# Altium integrated library Linear Technology Power Management Battery Management.IntLib: 626 symbols (part 21 of 56)
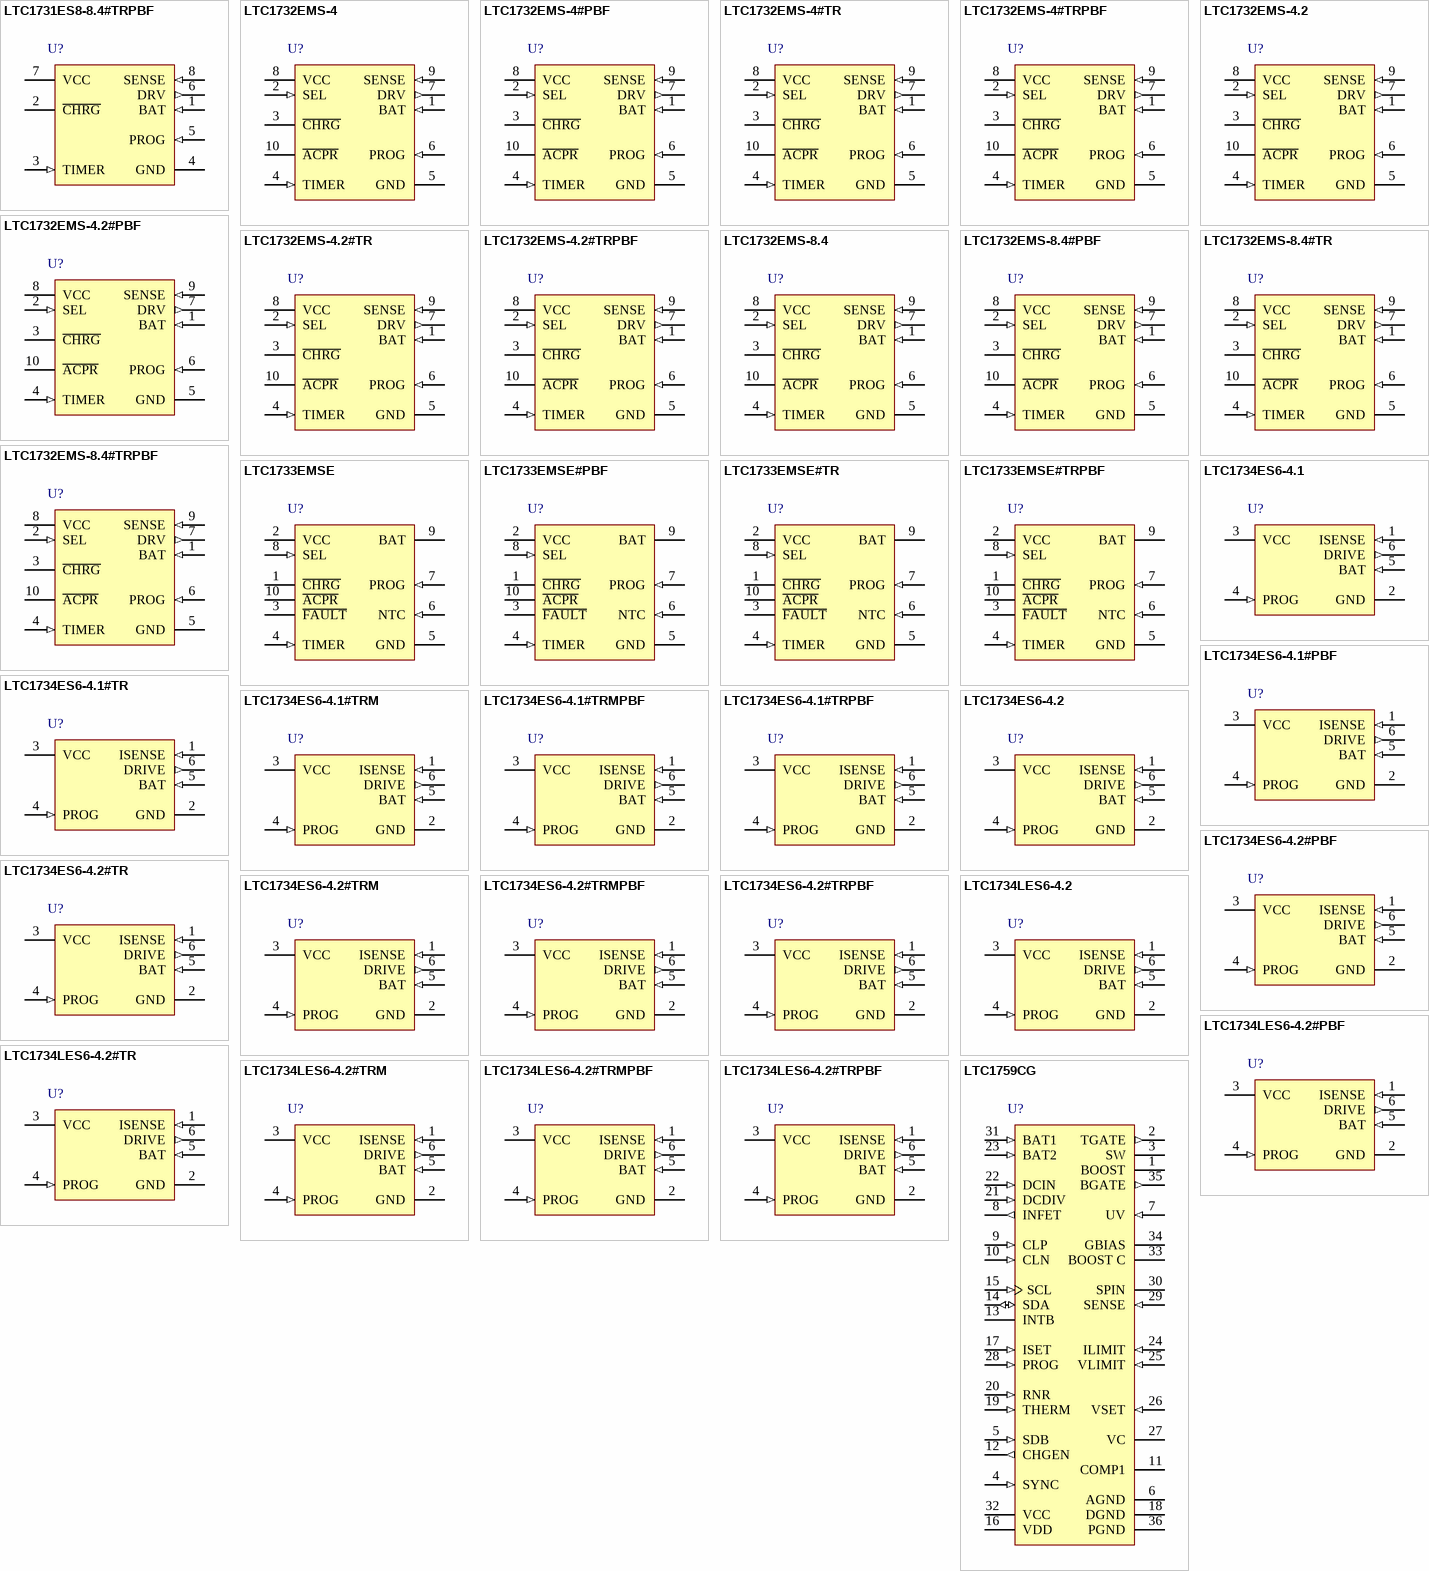
[diagram p42: symbols LTC1731ES8-8.4#TRPBF to LTC1759CG]

## LTC1732EMS-8.4#TR
designator U?
Complete Stand-Alone Linear Charger, Needs No Firmware, 8.8 to 12 V Vin, 10-pin SOP (MS-10), -40 to 85 degC, Tape and Reel; Manufacturer: Linear Technology; PartNumber: LTC1732EMS-8.4#TR; Battery Chemistry: Li-Ion, Li-Polymer; Charge Termination: On-board timer; Float Voltage: 8.4 V; Max Charge Current(A): 2; Vin Max(V): 12; Vin Min(V): 8.8; PackageVersion: Rev. E, 06/2010; PackageReference: MS-10; PackageDescription: 10-Pin Plastic MSOP, Body 3 x 3 mm, Pitch 0.5 mm; Supplier 1: Digi-Key; Supplier Part Number 1: LTC1732EMS-8.4TR-ND; Number of Cells: 2; Packing: Tape and Reel; RoHS: FALSE; Type of Charger: Linear; Mounting Technology: Surface Mount; ComponentLink1Description: Manufacturer URL; ComponentLink1URL: http://www.linear.com/; ComponentLink2Description: Datasheet; ComponentLink2URL: http://cds.linear.com/docs/en/datasheet/17328f.pdf; ComponentLink3Description: Package Specification; ComponentLink3URL: http://cds.linear.com/docs/en/packaging/05081661_F_MS.pdf
footprint LT-MS-10_N (SOP, 10-Leads, Body 3.1x3.1mm, Pitch 0.5mm, IPC Medium Density)
footprint LT-MS-10_L (SOP, 10-Leads, Body 3.1x3.1mm, Pitch 0.5mm, IPC High Density)
footprint LT-MS-10_M (SOP, 10-Leads, Body 3.1x3.1mm, Pitch 0.5mm, IPC Low Density)
pins: 1 BAT (in), 2 SEL (in), 3 ~{CHRG} (hiz), 4 TIMER (in), 5 GND (power) "Ground.", 6 PROG (in) "Charge Current Program and Shutdown Input Pin. The charge current is programmed by connecting a resistor, RPROG to ground. The charge current is IBAT = (VPROG ? 800ohm)/(RPROG ? RSENSE). The IC can be forced into shutdown by (See Datasheet)", 7 DRV (out), 8 VCC (power), 9 SENSE (in), 10 ~{ACPR} (hiz)

## LTC1732EMS-8.4#TRPBF
designator U?
Complete Stand-Alone Linear Charger, Needs No Firmware, 8.8 to 12 V Vin, 10-pin SOP (MS-10), -40 to 85 degC, Pb-Free, Tape and Reel; Manufacturer: Linear Technology; PartNumber: LTC1732EMS-8.4#TRPBF; Battery Chemistry: Li-Ion, Li-Polymer; Charge Termination: On-board timer; Float Voltage: 8.4 V; Max Charge Current(A): 2; Vin Max(V): 12; Vin Min(V): 8.8; PackageVersion: Rev. E, 06/2010; PackageReference: MS-10; PackageDescription: 10-Pin Plastic MSOP, Body 3 x 3 mm, Pitch 0.5 mm; Supplier 1: Digi-Key; Supplier Part Number 1: LTC1732EMS-8.4#TRPBF-ND; Number of Cells: 2; Packing: Tape and Reel; RoHS: TRUE; Type of Charger: Linear; Mounting Technology: Surface Mount; ComponentLink1Description: Manufacturer URL; ComponentLink1URL: http://www.linear.com/; ComponentLink2Description: Datasheet; ComponentLink2URL: http://cds.linear.com/docs/en/datasheet/17328f.pdf; ComponentLink3Description: Package Specification; ComponentLink3URL: http://cds.linear.com/docs/en/packaging/05081661_F_MS.pdf
footprint LT-MS-10_N (SOP, 10-Leads, Body 3.1x3.1mm, Pitch 0.5mm, IPC Medium Density)
footprint LT-MS-10_L (SOP, 10-Leads, Body 3.1x3.1mm, Pitch 0.5mm, IPC High Density)
footprint LT-MS-10_M (SOP, 10-Leads, Body 3.1x3.1mm, Pitch 0.5mm, IPC Low Density)
pins: 1 BAT (in), 2 SEL (in), 3 ~{CHRG} (hiz), 4 TIMER (in), 5 GND (power) "Ground.", 6 PROG (in) "Charge Current Program and Shutdown Input Pin. The charge current is programmed by connecting a resistor, RPROG to ground. The charge current is IBAT = (VPROG ? 800ohm)/(RPROG ? RSENSE). The IC can be forced into shutdown by (See Datasheet)", 7 DRV (out), 8 VCC (power), 9 SENSE (in), 10 ~{ACPR} (hiz)

## LTC1733EMSE
designator U?
Thermal Regulation for No Overheating, Integrated MOSFET, Rsense, Diode, Stand-Alone, Thermistor Interface, 4.5 to 6.5 V Vin, 10-pin SOP (MSE-10-EDP), -40 to 85 degC; Manufacturer: Linear Technology; PartNumber: LTC1733EMSE; Battery Chemistry: Li-Ion, Li-Polymer; Charge Termination: On-board timer; Float Voltage: 4.2 V; Max Charge Current(A): 1.5; Number of Cells: 1; Type of Charger: Linear; Vin Max(V): 6.5; Vin Min(V): 4.5; PackageVersion: Rev. C, 08/2009; PackageReference: MSE-10; PackageDescription: 10-Pin Plastic MSOP, Exposed Die Pad, Body 3 x 3 mm, Pitch 0.5 mm; Supplier 1: Digi-Key; Supplier Part Number 1: LTC1733EMSE-ND; RoHS: FALSE; Mounting Technology: Surface Mount; ComponentLink1Description: Manufacturer URL; ComponentLink1URL: http://www.linear.com/; ComponentLink2Description: Datasheet; ComponentLink2URL: http://cds.linear.com/docs/en/datasheet/1733fs.pdf; ComponentLink3Description: Package Specification; ComponentLink3URL: http://cds.linear.com/docs/en/datasheet/3481fc.pdf
footprint LT-MSE-10-EDP-2060x1830TP_N (SOP, 10-Leads, Body 3.1x3.1mm, Pitch 0.5mm, Thermal Pad 2.17x1.94mm, IPC Medium Density)
footprint LT-MSE-10-EDP-2060x1830TP_L (SOP, 10-Leads, Body 3.1x3.1mm, Pitch 0.5mm, Thermal Pad 2.17x1.94mm, IPC High Density)
footprint LT-MSE-10-EDP-2060x1830TP_M (SOP, 10-Leads, Body 3.1x3.1mm, Pitch 0.5mm, Thermal Pad 2.17x1.94mm, IPC Low Density)
pins: 1 ~{CHRG} (hiz) "Open-Drain Charge Status Output. When the battery is being charged, the C\H\R\G\ pin is pulled low by an internal N-channel MOSFET. When the charge current drops to 10% of the full-scale current, the N-channel MOSFET latches (See Datasheet)", 2 VCC (power) "Positive Input Supply Voltage. When VCC is within 30mV of VBAT or less than the undervoltage lockout threshold, the LTC1733 enters sleep mode, dropping IBAT to less than 5uA. VCC can range from 4.5V to 6.5V. Bypass this pin (See Datasheet)", 3 ~{FAULT} (oc) "Open-Drain F\A\U\L\T\ Status Output. The F\A\U\L\T\ opendrain logic signal indicates that the charger has timed out under trickle charge conditions (1/4 of total time period) or the NTC comparator is indicating an (See Datasheet)", 4 TIMER (in) "Timer Capacitor. The timer period is set by placing a capacitor, CTIMER, to ground. The timer period is: Time (Hours) = (CTIMER • 3 hr)/(0.1uF) Short the TIMER pin to ground to disable the internal timer function.", 5 GND (power) "Ground.", 6 NTC (in) "Input to the NTC (Negative Temperature Coefficient) Thermistor Temperature Monitoring Circuit. With an external 10k ohm NTC thermistor to ground and a 1% resistor to VCC, this pin can sense the temperature of the battery (See Datasheet)", 7 PROG (in) "Charge Current Program, Shutdown Input and Charge Current Monitor Pin. The charge current is programmed by connecting a resistor, RPROG to ground. When in constant-current mode, the LTC1733 servos the PROG pin voltage to 1.(See Datasheet)", 8 SEL (in) "4.1V/4.2V Battery Selection Input. Grounding this pin sets the battery float voltage to 4.1V, while connecting to VCC sets the voltage to 4.2V.", 9 BAT (power) "Charge Current Output. A bypass capacitor of at least 1uF with a 1W series resistor is required to minimize ripple voltage when the battery is not present. A precision internal resistor divider sets the final float potential (See Datasheet)", 10 ~{ACPR} (hiz) "Open-Drain Power Supply Status Output. When VCC is greater than the undervoltage lockout threshold and at least 30mV above VBAT, the A\C\P\R\ pin will pull to ground. Otherwise, the pin is forced to a high impedance state."

## LTC1733EMSE#PBF
designator U?
Thermal Regulation for No Overheating, Integrated MOSFET, Rsense, Diode, Stand-Alone, Thermistor Interface, 4.5 to 6.5 V Vin, 10-pin SOP (MSE-10-EDP), -40 to 85 degC, Pb-Free; Manufacturer: Linear Technology; PartNumber: LTC1733EMSE#PBF; Battery Chemistry: Li-Ion, Li-Polymer; Charge Termination: On-board timer; Float Voltage: 4.2 V; Max Charge Current(A): 1.5; Number of Cells: 1; Type of Charger: Linear; Vin Max(V): 6.5; Vin Min(V): 4.5; PackageVersion: Rev. C, 08/2009; PackageReference: MSE-10; PackageDescription: 10-Pin Plastic MSOP, Exposed Die Pad, Body 3 x 3 mm, Pitch 0.5 mm; Supplier 1: Digi-Key; Supplier Part Number 1: LTC1733EMSE#PBF-ND; Supplier 2: Farnell; Supplier Part Number 2: 1648017; Supplier 3: Newark; Supplier Part Number 3: 58M0697; RoHS: TRUE; Mounting Technology: Surface Mount; ComponentLink1Description: Manufacturer URL; ComponentLink1URL: http://www.linear.com/; ComponentLink2Description: Datasheet; ComponentLink2URL: http://cds.linear.com/docs/en/datasheet/1733fs.pdf; ComponentLink3Description: Package Specification; ComponentLink3URL: http://cds.linear.com/docs/en/datasheet/3481fc.pdf
footprint LT-MSE-10-EDP-2060x1830TP_N (SOP, 10-Leads, Body 3.1x3.1mm, Pitch 0.5mm, Thermal Pad 2.17x1.94mm, IPC Medium Density)
footprint LT-MSE-10-EDP-2060x1830TP_L (SOP, 10-Leads, Body 3.1x3.1mm, Pitch 0.5mm, Thermal Pad 2.17x1.94mm, IPC High Density)
footprint LT-MSE-10-EDP-2060x1830TP_M (SOP, 10-Leads, Body 3.1x3.1mm, Pitch 0.5mm, Thermal Pad 2.17x1.94mm, IPC Low Density)
pins: 1 ~{CHRG} (hiz) "Open-Drain Charge Status Output. When the battery is being charged, the C\H\R\G\ pin is pulled low by an internal N-channel MOSFET. When the charge current drops to 10% of the full-scale current, the N-channel MOSFET latches (See Datasheet)", 2 VCC (power) "Positive Input Supply Voltage. When VCC is within 30mV of VBAT or less than the undervoltage lockout threshold, the LTC1733 enters sleep mode, dropping IBAT to less than 5uA. VCC can range from 4.5V to 6.5V. Bypass this pin (See Datasheet)", 3 ~{FAULT} (oc) "Open-Drain F\A\U\L\T\ Status Output. The F\A\U\L\T\ opendrain logic signal indicates that the charger has timed out under trickle charge conditions (1/4 of total time period) or the NTC comparator is indicating an (See Datasheet)", 4 TIMER (in) "Timer Capacitor. The timer period is set by placing a capacitor, CTIMER, to ground. The timer period is: Time (Hours) = (CTIMER • 3 hr)/(0.1uF) Short the TIMER pin to ground to disable the internal timer function.", 5 GND (power) "Ground.", 6 NTC (in) "Input to the NTC (Negative Temperature Coefficient) Thermistor Temperature Monitoring Circuit. With an external 10k ohm NTC thermistor to ground and a 1% resistor to VCC, this pin can sense the temperature of the battery (See Datasheet)", 7 PROG (in) "Charge Current Program, Shutdown Input and Charge Current Monitor Pin. The charge current is programmed by connecting a resistor, RPROG to ground. When in constant-current mode, the LTC1733 servos the PROG pin voltage to 1.(See Datasheet)", 8 SEL (in) "4.1V/4.2V Battery Selection Input. Grounding this pin sets the battery float voltage to 4.1V, while connecting to VCC sets the voltage to 4.2V.", 9 BAT (power) "Charge Current Output. A bypass capacitor of at least 1uF with a 1W series resistor is required to minimize ripple voltage when the battery is not present. A precision internal resistor divider sets the final float potential (See Datasheet)", 10 ~{ACPR} (hiz) "Open-Drain Power Supply Status Output. When VCC is greater than the undervoltage lockout threshold and at least 30mV above VBAT, the A\C\P\R\ pin will pull to ground. Otherwise, the pin is forced to a high impedance state."

## LTC1733EMSE#TR
designator U?
Thermal Regulation for No Overheating, Integrated MOSFET, Rsense, Diode, Stand-Alone, Thermistor Interface, 4.5 to 6.5 V Vin, 10-pin SOP (MSE-10-EDP), -40 to 85 degC, Tape and Reel; Manufacturer: Linear Technology; PartNumber: LTC1733EMSE#TR; Battery Chemistry: Li-Ion, Li-Polymer; Charge Termination: On-board timer; Float Voltage: 4.2 V; Max Charge Current(A): 1.5; Number of Cells: 1; Type of Charger: Linear; Vin Max(V): 6.5; Vin Min(V): 4.5; PackageVersion: Rev. C, 08/2009; PackageReference: MSE-10; PackageDescription: 10-Pin Plastic MSOP, Exposed Die Pad, Body 3 x 3 mm, Pitch 0.5 mm; Supplier 1: Digi-Key; Supplier Part Number 1: LTC1733EMSE#TR-ND; Packing: Tape and Reel; RoHS: FALSE; Mounting Technology: Surface Mount; ComponentLink1Description: Manufacturer URL; ComponentLink1URL: http://www.linear.com/; ComponentLink2Description: Datasheet; ComponentLink2URL: http://cds.linear.com/docs/en/datasheet/1733fs.pdf; ComponentLink3Description: Package Specification; ComponentLink3URL: http://cds.linear.com/docs/en/datasheet/3481fc.pdf
footprint LT-MSE-10-EDP-2060x1830TP_N (SOP, 10-Leads, Body 3.1x3.1mm, Pitch 0.5mm, Thermal Pad 2.17x1.94mm, IPC Medium Density)
footprint LT-MSE-10-EDP-2060x1830TP_L (SOP, 10-Leads, Body 3.1x3.1mm, Pitch 0.5mm, Thermal Pad 2.17x1.94mm, IPC High Density)
footprint LT-MSE-10-EDP-2060x1830TP_M (SOP, 10-Leads, Body 3.1x3.1mm, Pitch 0.5mm, Thermal Pad 2.17x1.94mm, IPC Low Density)
pins: 1 ~{CHRG} (hiz) "Open-Drain Charge Status Output. When the battery is being charged, the C\H\R\G\ pin is pulled low by an internal N-channel MOSFET. When the charge current drops to 10% of the full-scale current, the N-channel MOSFET latches (See Datasheet)", 2 VCC (power) "Positive Input Supply Voltage. When VCC is within 30mV of VBAT or less than the undervoltage lockout threshold, the LTC1733 enters sleep mode, dropping IBAT to less than 5uA. VCC can range from 4.5V to 6.5V. Bypass this pin (See Datasheet)", 3 ~{FAULT} (oc) "Open-Drain F\A\U\L\T\ Status Output. The F\A\U\L\T\ opendrain logic signal indicates that the charger has timed out under trickle charge conditions (1/4 of total time period) or the NTC comparator is indicating an (See Datasheet)", 4 TIMER (in) "Timer Capacitor. The timer period is set by placing a capacitor, CTIMER, to ground. The timer period is: Time (Hours) = (CTIMER • 3 hr)/(0.1uF) Short the TIMER pin to ground to disable the internal timer function.", 5 GND (power) "Ground.", 6 NTC (in) "Input to the NTC (Negative Temperature Coefficient) Thermistor Temperature Monitoring Circuit. With an external 10k ohm NTC thermistor to ground and a 1% resistor to VCC, this pin can sense the temperature of the battery (See Datasheet)", 7 PROG (in) "Charge Current Program, Shutdown Input and Charge Current Monitor Pin. The charge current is programmed by connecting a resistor, RPROG to ground. When in constant-current mode, the LTC1733 servos the PROG pin voltage to 1.(See Datasheet)", 8 SEL (in) "4.1V/4.2V Battery Selection Input. Grounding this pin sets the battery float voltage to 4.1V, while connecting to VCC sets the voltage to 4.2V.", 9 BAT (power) "Charge Current Output. A bypass capacitor of at least 1uF with a 1W series resistor is required to minimize ripple voltage when the battery is not present. A precision internal resistor divider sets the final float potential (See Datasheet)", 10 ~{ACPR} (hiz) "Open-Drain Power Supply Status Output. When VCC is greater than the undervoltage lockout threshold and at least 30mV above VBAT, the A\C\P\R\ pin will pull to ground. Otherwise, the pin is forced to a high impedance state."

## LTC1733EMSE#TRPBF
designator U?
Thermal Regulation for No Overheating, Integrated MOSFET, Rsense, Diode, Stand-Alone, Thermistor Interface, 4.5 to 6.5 V Vin, 10-pin SOP (MSE-10-EDP), -40 to 85 degC, Pb-Free, Tape and Reel; Manufacturer: Linear Technology; PartNumber: LTC1733EMSE#TRPBF; Battery Chemistry: Li-Ion, Li-Polymer; Charge Termination: On-board timer; Float Voltage: 4.2 V; Max Charge Current(A): 1.5; Number of Cells: 1; Type of Charger: Linear; Vin Max(V): 6.5; Vin Min(V): 4.5; PackageVersion: Rev. C, 08/2009; PackageReference: MSE-10; PackageDescription: 10-Pin Plastic MSOP, Exposed Die Pad, Body 3 x 3 mm, Pitch 0.5 mm; Supplier 1: Digi-Key; Supplier Part Number 1: LTC1733EMSE#TRPBF-ND; Packing: Tape and Reel; RoHS: TRUE; Mounting Technology: Surface Mount; ComponentLink1Description: Manufacturer URL; ComponentLink1URL: http://www.linear.com/; ComponentLink2Description: Datasheet; ComponentLink2URL: http://cds.linear.com/docs/en/datasheet/1733fs.pdf; ComponentLink3Description: Package Specification; ComponentLink3URL: http://cds.linear.com/docs/en/datasheet/3481fc.pdf
footprint LT-MSE-10-EDP-2060x1830TP_N (SOP, 10-Leads, Body 3.1x3.1mm, Pitch 0.5mm, Thermal Pad 2.17x1.94mm, IPC Medium Density)
footprint LT-MSE-10-EDP-2060x1830TP_L (SOP, 10-Leads, Body 3.1x3.1mm, Pitch 0.5mm, Thermal Pad 2.17x1.94mm, IPC High Density)
footprint LT-MSE-10-EDP-2060x1830TP_M (SOP, 10-Leads, Body 3.1x3.1mm, Pitch 0.5mm, Thermal Pad 2.17x1.94mm, IPC Low Density)
pins: 1 ~{CHRG} (hiz) "Open-Drain Charge Status Output. When the battery is being charged, the C\H\R\G\ pin is pulled low by an internal N-channel MOSFET. When the charge current drops to 10% of the full-scale current, the N-channel MOSFET latches (See Datasheet)", 2 VCC (power) "Positive Input Supply Voltage. When VCC is within 30mV of VBAT or less than the undervoltage lockout threshold, the LTC1733 enters sleep mode, dropping IBAT to less than 5uA. VCC can range from 4.5V to 6.5V. Bypass this pin (See Datasheet)", 3 ~{FAULT} (oc) "Open-Drain F\A\U\L\T\ Status Output. The F\A\U\L\T\ opendrain logic signal indicates that the charger has timed out under trickle charge conditions (1/4 of total time period) or the NTC comparator is indicating an (See Datasheet)", 4 TIMER (in) "Timer Capacitor. The timer period is set by placing a capacitor, CTIMER, to ground. The timer period is: Time (Hours) = (CTIMER • 3 hr)/(0.1uF) Short the TIMER pin to ground to disable the internal timer function.", 5 GND (power) "Ground.", 6 NTC (in) "Input to the NTC (Negative Temperature Coefficient) Thermistor Temperature Monitoring Circuit. With an external 10k ohm NTC thermistor to ground and a 1% resistor to VCC, this pin can sense the temperature of the battery (See Datasheet)", 7 PROG (in) "Charge Current Program, Shutdown Input and Charge Current Monitor Pin. The charge current is programmed by connecting a resistor, RPROG to ground. When in constant-current mode, the LTC1733 servos the PROG pin voltage to 1.(See Datasheet)", 8 SEL (in) "4.1V/4.2V Battery Selection Input. Grounding this pin sets the battery float voltage to 4.1V, while connecting to VCC sets the voltage to 4.2V.", 9 BAT (power) "Charge Current Output. A bypass capacitor of at least 1uF with a 1W series resistor is required to minimize ripple voltage when the battery is not present. A precision internal resistor divider sets the final float potential (See Datasheet)", 10 ~{ACPR} (hiz) "Open-Drain Power Supply Status Output. When VCC is greater than the undervoltage lockout threshold and at least 30mV above VBAT, the A\C\P\R\ pin will pull to ground. Otherwise, the pin is forced to a high impedance state."

## LTC1734ES6-4.1
designator U?
Lithium-Ion Linear Battery Charger, 4.55 to 8 V Vin, 6-pin SOT23 (S6-6), -40 to 85 degC; Manufacturer: Linear Technology; PartNumber: LTC1734ES6-4.1; Battery Chemistry: Li-Ion, Li-Polymer; Charge Termination: Microcontroller; Float Voltage: 4.1 V; Max Charge Current(A): 0.7; Number of Cells: 1; Vin Max(V): 8; Vin Min(V): 4.55; PackageVersion: Jun-10; PackageReference: S6-6; PackageDescription: 6-Pin Plastic TSOT-23, Body 2.9 x 1.63 mm, Pitch 0.95 mm; RoHS: FALSE; Type of Charger: Linear; Mounting Technology: Surface Mount; Code_JEDEC: MO-193; ComponentLink1Description: Manufacturer URL; ComponentLink1URL: http://www.linear.com/; ComponentLink2Description: Datasheet; ComponentLink2URL: http://cds.linear.com/docs/en/datasheet/1734fs.pdf; ComponentLink3Description: Package Specification; ComponentLink3URL: http://cds.linear.com/docs/en/packaging/SOT_6_05-08-1636.pdf
footprint LT-S6-6-TSOT-23_N (SOT23, 6-Leads, Body 2.9x1.75mm, Pitch 0.95mm, IPC Medium Density)
footprint LT-S6-6-TSOT-23_L (SOT23, 6-Leads, Body 2.9x1.75mm, Pitch 0.95mm, IPC High Density)
footprint LT-S6-6-TSOT-23_M (SOT23, 6-Leads, Body 2.9x1.75mm, Pitch 0.95mm, IPC Low Density)
pins: 1 ISENSE (in) "Sense Node for Charge Current. Current from VCC passes through the internal current sense resistor and reappears at ISENSE to supply current to the external PNP emitter. The PNP collector provides charge current to the (See Datasheet)", 2 GND (power) "Ground. Provides a reference for the internal voltage regulator and a return for all internal circuits. When in the constant voltage mode, the LTC1734 will precisely regulate the voltage between the BAT and GND pins. The (See Datasheet)", 3 VCC (power) "Positive Input Supply Voltage. Supplies power to the internal control circuitry and external PNP transistor through the internal current sense resistor. This pin should be bypassed to ground with a capacitor in the range of (See Datasheet)", 4 PROG (in) "Charge Current Programming, Charge Current Monitor and manual Shutdown Pin. Provides a virtual reference voltage of 1.5V for an external resistor (RPROG) tied between this pin and ground that programs the battery charge (See Datasheet)", 5 BAT (in) "Battery Voltage Sense Input. A precision internal resistor divider sets the final float voltage on this pin. This divider is disconnected in the manual shutdown or sleep mode. When charging, approximately 34uA flows into the (See Datasheet)", 6 DRIVE (out) "Base Drive Output for the External PNP Pass Transistor. Provides a controlled sink current that drives the base of the PNP. This pin has current limiting protection for the LTC1734"

## LTC1734ES6-4.1#PBF
designator U?
Lithium-Ion Linear Battery Charger, 4.55 to 8 V Vin, 6-pin SOT23 (S6-6), -40 to 85 degC, Pb-Free; Manufacturer: Linear Technology; PartNumber: LTC1734ES6-4.1#PBF; Battery Chemistry: Li-Ion, Li-Polymer; Charge Termination: Microcontroller; Float Voltage: 4.1 V; Max Charge Current(A): 0.7; Number of Cells: 1; Vin Max(V): 8; Vin Min(V): 4.55; PackageVersion: Jun-10; PackageReference: S6-6; PackageDescription: 6-Pin Plastic TSOT-23, Body 2.9 x 1.63 mm, Pitch 0.95 mm; RoHS: TRUE; Type of Charger: Linear; Mounting Technology: Surface Mount; Code_JEDEC: MO-193; ComponentLink1Description: Manufacturer URL; ComponentLink1URL: http://www.linear.com/; ComponentLink2Description: Datasheet; ComponentLink2URL: http://cds.linear.com/docs/en/datasheet/1734fs.pdf; ComponentLink3Description: Package Specification; ComponentLink3URL: http://cds.linear.com/docs/en/packaging/SOT_6_05-08-1636.pdf
footprint LT-S6-6-TSOT-23_N (SOT23, 6-Leads, Body 2.9x1.75mm, Pitch 0.95mm, IPC Medium Density)
footprint LT-S6-6-TSOT-23_L (SOT23, 6-Leads, Body 2.9x1.75mm, Pitch 0.95mm, IPC High Density)
footprint LT-S6-6-TSOT-23_M (SOT23, 6-Leads, Body 2.9x1.75mm, Pitch 0.95mm, IPC Low Density)
pins: 1 ISENSE (in) "Sense Node for Charge Current. Current from VCC passes through the internal current sense resistor and reappears at ISENSE to supply current to the external PNP emitter. The PNP collector provides charge current to the (See Datasheet)", 2 GND (power) "Ground. Provides a reference for the internal voltage regulator and a return for all internal circuits. When in the constant voltage mode, the LTC1734 will precisely regulate the voltage between the BAT and GND pins. The (See Datasheet)", 3 VCC (power) "Positive Input Supply Voltage. Supplies power to the internal control circuitry and external PNP transistor through the internal current sense resistor. This pin should be bypassed to ground with a capacitor in the range of (See Datasheet)", 4 PROG (in) "Charge Current Programming, Charge Current Monitor and manual Shutdown Pin. Provides a virtual reference voltage of 1.5V for an external resistor (RPROG) tied between this pin and ground that programs the battery charge (See Datasheet)", 5 BAT (in) "Battery Voltage Sense Input. A precision internal resistor divider sets the final float voltage on this pin. This divider is disconnected in the manual shutdown or sleep mode. When charging, approximately 34uA flows into the (See Datasheet)", 6 DRIVE (out) "Base Drive Output for the External PNP Pass Transistor. Provides a controlled sink current that drives the base of the PNP. This pin has current limiting protection for the LTC1734"

## LTC1734ES6-4.1#TR
designator U?
Lithium-Ion Linear Battery Charger, 4.55 to 8 V Vin, 6-pin SOT23 (S6-6), -40 to 85 degC, Tape and Reel; Manufacturer: Linear Technology; PartNumber: LTC1734ES6-4.1#TR; Battery Chemistry: Li-Ion, Li-Polymer; Charge Termination: Microcontroller; Float Voltage: 4.1 V; Max Charge Current(A): 0.7; Number of Cells: 1; Vin Max(V): 8; Vin Min(V): 4.55; PackageVersion: Jun-10; PackageReference: S6-6; PackageDescription: 6-Pin Plastic TSOT-23, Body 2.9 x 1.63 mm, Pitch 0.95 mm; Supplier 1: Digi-Key; Supplier Part Number 1: LTC1734ES6-4.1TR-ND; Packing: Tape and Reel; RoHS: FALSE; Type of Charger: Linear; Mounting Technology: Surface Mount; Code_JEDEC: MO-193; ComponentLink1Description: Manufacturer URL; ComponentLink1URL: http://www.linear.com/; ComponentLink2Description: Datasheet; ComponentLink2URL: http://cds.linear.com/docs/en/datasheet/1734fs.pdf; ComponentLink3Description: Package Specification; ComponentLink3URL: http://cds.linear.com/docs/en/packaging/SOT_6_05-08-1636.pdf
footprint LT-S6-6-TSOT-23_N (SOT23, 6-Leads, Body 2.9x1.75mm, Pitch 0.95mm, IPC Medium Density)
footprint LT-S6-6-TSOT-23_L (SOT23, 6-Leads, Body 2.9x1.75mm, Pitch 0.95mm, IPC High Density)
footprint LT-S6-6-TSOT-23_M (SOT23, 6-Leads, Body 2.9x1.75mm, Pitch 0.95mm, IPC Low Density)
pins: 1 ISENSE (in) "Sense Node for Charge Current. Current from VCC passes through the internal current sense resistor and reappears at ISENSE to supply current to the external PNP emitter. The PNP collector provides charge current to the (See Datasheet)", 2 GND (power) "Ground. Provides a reference for the internal voltage regulator and a return for all internal circuits. When in the constant voltage mode, the LTC1734 will precisely regulate the voltage between the BAT and GND pins. The (See Datasheet)", 3 VCC (power) "Positive Input Supply Voltage. Supplies power to the internal control circuitry and external PNP transistor through the internal current sense resistor. This pin should be bypassed to ground with a capacitor in the range of (See Datasheet)", 4 PROG (in) "Charge Current Programming, Charge Current Monitor and manual Shutdown Pin. Provides a virtual reference voltage of 1.5V for an external resistor (RPROG) tied between this pin and ground that programs the battery charge (See Datasheet)", 5 BAT (in) "Battery Voltage Sense Input. A precision internal resistor divider sets the final float voltage on this pin. This divider is disconnected in the manual shutdown or sleep mode. When charging, approximately 34uA flows into the (See Datasheet)", 6 DRIVE (out) "Base Drive Output for the External PNP Pass Transistor. Provides a controlled sink current that drives the base of the PNP. This pin has current limiting protection for the LTC1734"

## LTC1734ES6-4.1#TRM
designator U?
Lithium-Ion Linear Battery Charger, 4.55 to 8 V Vin, 6-pin SOT23 (S6-6), -40 to 85 degC, Mini Tape and Reel; Manufacturer: Linear Technology; PartNumber: LTC1734ES6-4.1#TRM; Battery Chemistry: Li-Ion, Li-Polymer; Charge Termination: Microcontroller; Float Voltage: 4.1 V; Max Charge Current(A): 0.7; Number of Cells: 1; Vin Max(V): 8; Vin Min(V): 4.55; PackageVersion: Jun-10; PackageReference: S6-6; PackageDescription: 6-Pin Plastic TSOT-23, Body 2.9 x 1.63 mm, Pitch 0.95 mm; Supplier 1: Digi-Key; Supplier Part Number 1: LTC1734ES6-4.1#TRM-ND; Packing: Mini Tape and Reel; RoHS: FALSE; Type of Charger: Linear; Mounting Technology: Surface Mount; Code_JEDEC: MO-193; ComponentLink1Description: Manufacturer URL; ComponentLink1URL: http://www.linear.com/; ComponentLink2Description: Datasheet; ComponentLink2URL: http://cds.linear.com/docs/en/datasheet/1734fs.pdf; ComponentLink3Description: Package Specification; ComponentLink3URL: http://cds.linear.com/docs/en/packaging/SOT_6_05-08-1636.pdf
footprint LT-S6-6-TSOT-23_N (SOT23, 6-Leads, Body 2.9x1.75mm, Pitch 0.95mm, IPC Medium Density)
footprint LT-S6-6-TSOT-23_L (SOT23, 6-Leads, Body 2.9x1.75mm, Pitch 0.95mm, IPC High Density)
footprint LT-S6-6-TSOT-23_M (SOT23, 6-Leads, Body 2.9x1.75mm, Pitch 0.95mm, IPC Low Density)
pins: 1 ISENSE (in) "Sense Node for Charge Current. Current from VCC passes through the internal current sense resistor and reappears at ISENSE to supply current to the external PNP emitter. The PNP collector provides charge current to the (See Datasheet)", 2 GND (power) "Ground. Provides a reference for the internal voltage regulator and a return for all internal circuits. When in the constant voltage mode, the LTC1734 will precisely regulate the voltage between the BAT and GND pins. The (See Datasheet)", 3 VCC (power) "Positive Input Supply Voltage. Supplies power to the internal control circuitry and external PNP transistor through the internal current sense resistor. This pin should be bypassed to ground with a capacitor in the range of (See Datasheet)", 4 PROG (in) "Charge Current Programming, Charge Current Monitor and manual Shutdown Pin. Provides a virtual reference voltage of 1.5V for an external resistor (RPROG) tied between this pin and ground that programs the battery charge (See Datasheet)", 5 BAT (in) "Battery Voltage Sense Input. A precision internal resistor divider sets the final float voltage on this pin. This divider is disconnected in the manual shutdown or sleep mode. When charging, approximately 34uA flows into the (See Datasheet)", 6 DRIVE (out) "Base Drive Output for the External PNP Pass Transistor. Provides a controlled sink current that drives the base of the PNP. This pin has current limiting protection for the LTC1734"

## LTC1734ES6-4.1#TRMPBF
designator U?
Lithium-Ion Linear Battery Charger, 4.55 to 8 V Vin, 6-pin SOT23 (S6-6), -40 to 85 degC, Pb-Free, Mini Tape and Reel; Manufacturer: Linear Technology; PartNumber: LTC1734ES6-4.1#TRMPBF; Battery Chemistry: Li-Ion, Li-Polymer; Charge Termination: Microcontroller; Float Voltage: 4.1 V; Max Charge Current(A): 0.7; Number of Cells: 1; Vin Max(V): 8; Vin Min(V): 4.55; PackageVersion: Jun-10; PackageReference: S6-6; PackageDescription: 6-Pin Plastic TSOT-23, Body 2.9 x 1.63 mm, Pitch 0.95 mm; Supplier 1: Digi-Key; Supplier Part Number 1: LTC1734ES6-4.1#TRMPBF-ND; Supplier 2: Newark; Supplier Part Number 2: 56M3541; Packing: Mini Tape and Reel; RoHS: TRUE; Type of Charger: Linear; Mounting Technology: Surface Mount; Code_JEDEC: MO-193; ComponentLink1Description: Manufacturer URL; ComponentLink1URL: http://www.linear.com/; ComponentLink2Description: Datasheet; ComponentLink2URL: http://cds.linear.com/docs/en/datasheet/1734fs.pdf; ComponentLink3Description: Package Specification; ComponentLink3URL: http://cds.linear.com/docs/en/packaging/SOT_6_05-08-1636.pdf
footprint LT-S6-6-TSOT-23_N (SOT23, 6-Leads, Body 2.9x1.75mm, Pitch 0.95mm, IPC Medium Density)
footprint LT-S6-6-TSOT-23_L (SOT23, 6-Leads, Body 2.9x1.75mm, Pitch 0.95mm, IPC High Density)
footprint LT-S6-6-TSOT-23_M (SOT23, 6-Leads, Body 2.9x1.75mm, Pitch 0.95mm, IPC Low Density)
pins: 1 ISENSE (in) "Sense Node for Charge Current. Current from VCC passes through the internal current sense resistor and reappears at ISENSE to supply current to the external PNP emitter. The PNP collector provides charge current to the (See Datasheet)", 2 GND (power) "Ground. Provides a reference for the internal voltage regulator and a return for all internal circuits. When in the constant voltage mode, the LTC1734 will precisely regulate the voltage between the BAT and GND pins. The (See Datasheet)", 3 VCC (power) "Positive Input Supply Voltage. Supplies power to the internal control circuitry and external PNP transistor through the internal current sense resistor. This pin should be bypassed to ground with a capacitor in the range of (See Datasheet)", 4 PROG (in) "Charge Current Programming, Charge Current Monitor and manual Shutdown Pin. Provides a virtual reference voltage of 1.5V for an external resistor (RPROG) tied between this pin and ground that programs the battery charge (See Datasheet)", 5 BAT (in) "Battery Voltage Sense Input. A precision internal resistor divider sets the final float voltage on this pin. This divider is disconnected in the manual shutdown or sleep mode. When charging, approximately 34uA flows into the (See Datasheet)", 6 DRIVE (out) "Base Drive Output for the External PNP Pass Transistor. Provides a controlled sink current that drives the base of the PNP. This pin has current limiting protection for the LTC1734"

## LTC1734ES6-4.1#TRPBF
designator U?
Lithium-Ion Linear Battery Charger, 4.55 to 8 V Vin, 6-pin SOT23 (S6-6), -40 to 85 degC, Pb-Free, Tape and Reel; Manufacturer: Linear Technology; PartNumber: LTC1734ES6-4.1#TRPBF; Battery Chemistry: Li-Ion, Li-Polymer; Charge Termination: Microcontroller; Float Voltage: 4.1 V; Max Charge Current(A): 0.7; Number of Cells: 1; Vin Max(V): 8; Vin Min(V): 4.55; PackageVersion: Jun-10; PackageReference: S6-6; PackageDescription: 6-Pin Plastic TSOT-23, Body 2.9 x 1.63 mm, Pitch 0.95 mm; Supplier 1: Digi-Key; Supplier Part Number 1: LTC1734ES6-4.1#TRPBF-ND; Packing: Tape and Reel; RoHS: TRUE; Type of Charger: Linear; Mounting Technology: Surface Mount; Code_JEDEC: MO-193; ComponentLink1Description: Manufacturer URL; ComponentLink1URL: http://www.linear.com/; ComponentLink2Description: Datasheet; ComponentLink2URL: http://cds.linear.com/docs/en/datasheet/1734fs.pdf; ComponentLink3Description: Package Specification; ComponentLink3URL: http://cds.linear.com/docs/en/packaging/SOT_6_05-08-1636.pdf
footprint LT-S6-6-TSOT-23_N (SOT23, 6-Leads, Body 2.9x1.75mm, Pitch 0.95mm, IPC Medium Density)
footprint LT-S6-6-TSOT-23_L (SOT23, 6-Leads, Body 2.9x1.75mm, Pitch 0.95mm, IPC High Density)
footprint LT-S6-6-TSOT-23_M (SOT23, 6-Leads, Body 2.9x1.75mm, Pitch 0.95mm, IPC Low Density)
pins: 1 ISENSE (in) "Sense Node for Charge Current. Current from VCC passes through the internal current sense resistor and reappears at ISENSE to supply current to the external PNP emitter. The PNP collector provides charge current to the (See Datasheet)", 2 GND (power) "Ground. Provides a reference for the internal voltage regulator and a return for all internal circuits. When in the constant voltage mode, the LTC1734 will precisely regulate the voltage between the BAT and GND pins. The (See Datasheet)", 3 VCC (power) "Positive Input Supply Voltage. Supplies power to the internal control circuitry and external PNP transistor through the internal current sense resistor. This pin should be bypassed to ground with a capacitor in the range of (See Datasheet)", 4 PROG (in) "Charge Current Programming, Charge Current Monitor and manual Shutdown Pin. Provides a virtual reference voltage of 1.5V for an external resistor (RPROG) tied between this pin and ground that programs the battery charge (See Datasheet)", 5 BAT (in) "Battery Voltage Sense Input. A precision internal resistor divider sets the final float voltage on this pin. This divider is disconnected in the manual shutdown or sleep mode. When charging, approximately 34uA flows into the (See Datasheet)", 6 DRIVE (out) "Base Drive Output for the External PNP Pass Transistor. Provides a controlled sink current that drives the base of the PNP. This pin has current limiting protection for the LTC1734"

## LTC1734ES6-4.2
designator U?
Lithium-Ion Linear Battery Charger, 4.55 to 8 V Vin, 6-pin SOT23 (S6-6), -40 to 85 degC; Manufacturer: Linear Technology; PartNumber: LTC1734ES6-4.2; Battery Chemistry: Li-Ion, Li-Polymer; Charge Termination: Microcontroller; Float Voltage: 4.2 V; Max Charge Current(A): 0.7; Number of Cells: 1; Vin Max(V): 8; Vin Min(V): 4.55; PackageVersion: Jun-10; PackageReference: S6-6; PackageDescription: 6-Pin Plastic TSOT-23, Body 2.9 x 1.63 mm, Pitch 0.95 mm; RoHS: FALSE; Type of Charger: Linear; Mounting Technology: Surface Mount; Code_JEDEC: MO-193; ComponentLink1Description: Manufacturer URL; ComponentLink1URL: http://www.linear.com/; ComponentLink2Description: Datasheet; ComponentLink2URL: http://cds.linear.com/docs/en/datasheet/1734fs.pdf; ComponentLink3Description: Package Specification; ComponentLink3URL: http://cds.linear.com/docs/en/packaging/SOT_6_05-08-1636.pdf
footprint LT-S6-6-TSOT-23_N (SOT23, 6-Leads, Body 2.9x1.75mm, Pitch 0.95mm, IPC Medium Density)
footprint LT-S6-6-TSOT-23_L (SOT23, 6-Leads, Body 2.9x1.75mm, Pitch 0.95mm, IPC High Density)
footprint LT-S6-6-TSOT-23_M (SOT23, 6-Leads, Body 2.9x1.75mm, Pitch 0.95mm, IPC Low Density)
pins: 1 ISENSE (in) "Sense Node for Charge Current. Current from VCC passes through the internal current sense resistor and reappears at ISENSE to supply current to the external PNP emitter. The PNP collector provides charge current to the (See Datasheet)", 2 GND (power) "Ground. Provides a reference for the internal voltage regulator and a return for all internal circuits. When in the constant voltage mode, the LTC1734 will precisely regulate the voltage between the BAT and GND pins. The (See Datasheet)", 3 VCC (power) "Positive Input Supply Voltage. Supplies power to the internal control circuitry and external PNP transistor through the internal current sense resistor. This pin should be bypassed to ground with a capacitor in the range of (See Datasheet)", 4 PROG (in) "Charge Current Programming, Charge Current Monitor and manual Shutdown Pin. Provides a virtual reference voltage of 1.5V for an external resistor (RPROG) tied between this pin and ground that programs the battery charge (See Datasheet)", 5 BAT (in) "Battery Voltage Sense Input. A precision internal resistor divider sets the final float voltage on this pin. This divider is disconnected in the manual shutdown or sleep mode. When charging, approximately 34uA flows into the (See Datasheet)", 6 DRIVE (out) "Base Drive Output for the External PNP Pass Transistor. Provides a controlled sink current that drives the base of the PNP. This pin has current limiting protection for the LTC1734"

## LTC1734ES6-4.2#PBF
designator U?
Lithium-Ion Linear Battery Charger, 4.55 to 8 V Vin, 6-pin SOT23 (S6-6), -40 to 85 degC, Pb-Free; Manufacturer: Linear Technology; PartNumber: LTC1734ES6-4.2#PBF; Battery Chemistry: Li-Ion, Li-Polymer; Charge Termination: Microcontroller; Float Voltage: 4.2 V; Max Charge Current(A): 0.7; Number of Cells: 1; Vin Max(V): 8; Vin Min(V): 4.55; PackageVersion: Jun-10; PackageReference: S6-6; PackageDescription: 6-Pin Plastic TSOT-23, Body 2.9 x 1.63 mm, Pitch 0.95 mm; RoHS: TRUE; Type of Charger: Linear; Mounting Technology: Surface Mount; Code_JEDEC: MO-193; ComponentLink1Description: Manufacturer URL; ComponentLink1URL: http://www.linear.com/; ComponentLink2Description: Datasheet; ComponentLink2URL: http://cds.linear.com/docs/en/datasheet/1734fs.pdf; ComponentLink3Description: Package Specification; ComponentLink3URL: http://cds.linear.com/docs/en/packaging/SOT_6_05-08-1636.pdf
footprint LT-S6-6-TSOT-23_N (SOT23, 6-Leads, Body 2.9x1.75mm, Pitch 0.95mm, IPC Medium Density)
footprint LT-S6-6-TSOT-23_L (SOT23, 6-Leads, Body 2.9x1.75mm, Pitch 0.95mm, IPC High Density)
footprint LT-S6-6-TSOT-23_M (SOT23, 6-Leads, Body 2.9x1.75mm, Pitch 0.95mm, IPC Low Density)
pins: 1 ISENSE (in) "Sense Node for Charge Current. Current from VCC passes through the internal current sense resistor and reappears at ISENSE to supply current to the external PNP emitter. The PNP collector provides charge current to the (See Datasheet)", 2 GND (power) "Ground. Provides a reference for the internal voltage regulator and a return for all internal circuits. When in the constant voltage mode, the LTC1734 will precisely regulate the voltage between the BAT and GND pins. The (See Datasheet)", 3 VCC (power) "Positive Input Supply Voltage. Supplies power to the internal control circuitry and external PNP transistor through the internal current sense resistor. This pin should be bypassed to ground with a capacitor in the range of (See Datasheet)", 4 PROG (in) "Charge Current Programming, Charge Current Monitor and manual Shutdown Pin. Provides a virtual reference voltage of 1.5V for an external resistor (RPROG) tied between this pin and ground that programs the battery charge (See Datasheet)", 5 BAT (in) "Battery Voltage Sense Input. A precision internal resistor divider sets the final float voltage on this pin. This divider is disconnected in the manual shutdown or sleep mode. When charging, approximately 34uA flows into the (See Datasheet)", 6 DRIVE (out) "Base Drive Output for the External PNP Pass Transistor. Provides a controlled sink current that drives the base of the PNP. This pin has current limiting protection for the LTC1734"

## LTC1734ES6-4.2#TR
designator U?
Lithium-Ion Linear Battery Charger, 4.55 to 8 V Vin, 6-pin SOT23 (S6-6), -40 to 85 degC, Tape and Reel; Manufacturer: Linear Technology; PartNumber: LTC1734ES6-4.2#TR; Battery Chemistry: Li-Ion, Li-Polymer; Charge Termination: Microcontroller; Float Voltage: 4.2 V; Max Charge Current(A): 0.7; Number of Cells: 1; Vin Max(V): 8; Vin Min(V): 4.55; PackageVersion: Jun-10; PackageReference: S6-6; PackageDescription: 6-Pin Plastic TSOT-23, Body 2.9 x 1.63 mm, Pitch 0.95 mm; Supplier 1: Digi-Key; Supplier Part Number 1: LTC1734ES6-4.2TR-ND; Packing: Tape and Reel; RoHS: FALSE; Type of Charger: Linear; Mounting Technology: Surface Mount; Code_JEDEC: MO-193; ComponentLink1Description: Manufacturer URL; ComponentLink1URL: http://www.linear.com/; ComponentLink2Description: Datasheet; ComponentLink2URL: http://cds.linear.com/docs/en/datasheet/1734fs.pdf; ComponentLink3Description: Package Specification; ComponentLink3URL: http://cds.linear.com/docs/en/packaging/SOT_6_05-08-1636.pdf
footprint LT-S6-6-TSOT-23_N (SOT23, 6-Leads, Body 2.9x1.75mm, Pitch 0.95mm, IPC Medium Density)
footprint LT-S6-6-TSOT-23_L (SOT23, 6-Leads, Body 2.9x1.75mm, Pitch 0.95mm, IPC High Density)
footprint LT-S6-6-TSOT-23_M (SOT23, 6-Leads, Body 2.9x1.75mm, Pitch 0.95mm, IPC Low Density)
pins: 1 ISENSE (in) "Sense Node for Charge Current. Current from VCC passes through the internal current sense resistor and reappears at ISENSE to supply current to the external PNP emitter. The PNP collector provides charge current to the (See Datasheet)", 2 GND (power) "Ground. Provides a reference for the internal voltage regulator and a return for all internal circuits. When in the constant voltage mode, the LTC1734 will precisely regulate the voltage between the BAT and GND pins. The (See Datasheet)", 3 VCC (power) "Positive Input Supply Voltage. Supplies power to the internal control circuitry and external PNP transistor through the internal current sense resistor. This pin should be bypassed to ground with a capacitor in the range of (See Datasheet)", 4 PROG (in) "Charge Current Programming, Charge Current Monitor and manual Shutdown Pin. Provides a virtual reference voltage of 1.5V for an external resistor (RPROG) tied between this pin and ground that programs the battery charge (See Datasheet)", 5 BAT (in) "Battery Voltage Sense Input. A precision internal resistor divider sets the final float voltage on this pin. This divider is disconnected in the manual shutdown or sleep mode. When charging, approximately 34uA flows into the (See Datasheet)", 6 DRIVE (out) "Base Drive Output for the External PNP Pass Transistor. Provides a controlled sink current that drives the base of the PNP. This pin has current limiting protection for the LTC1734"

## LTC1734ES6-4.2#TRM
designator U?
Lithium-Ion Linear Battery Charger, 4.55 to 8 V Vin, 6-pin SOT23 (S6-6), -40 to 85 degC, Mini Tape and Reel; Manufacturer: Linear Technology; PartNumber: LTC1734ES6-4.2#TRM; Battery Chemistry: Li-Ion, Li-Polymer; Charge Termination: Microcontroller; Float Voltage: 4.2 V; Max Charge Current(A): 0.7; Number of Cells: 1; Vin Max(V): 8; Vin Min(V): 4.55; PackageVersion: Jun-10; PackageReference: S6-6; PackageDescription: 6-Pin Plastic TSOT-23, Body 2.9 x 1.63 mm, Pitch 0.95 mm; Supplier 1: Digi-Key; Supplier Part Number 1: LTC1734ES6-4.2#TRMTR-ND; Supplier 2: Digi-Key; Supplier Part Number 2: LTC1734ES6-4.2#TRMCT-ND; Packing: Mini Tape and Reel; RoHS: FALSE; Type of Charger: Linear; Mounting Technology: Surface Mount; Code_JEDEC: MO-193; ComponentLink1Description: Manufacturer URL; ComponentLink1URL: http://www.linear.com/; ComponentLink2Description: Datasheet; ComponentLink2URL: http://cds.linear.com/docs/en/datasheet/1734fs.pdf; ComponentLink3Description: Package Specification; ComponentLink3URL: http://cds.linear.com/docs/en/packaging/SOT_6_05-08-1636.pdf
footprint LT-S6-6-TSOT-23_N (SOT23, 6-Leads, Body 2.9x1.75mm, Pitch 0.95mm, IPC Medium Density)
footprint LT-S6-6-TSOT-23_L (SOT23, 6-Leads, Body 2.9x1.75mm, Pitch 0.95mm, IPC High Density)
footprint LT-S6-6-TSOT-23_M (SOT23, 6-Leads, Body 2.9x1.75mm, Pitch 0.95mm, IPC Low Density)
pins: 1 ISENSE (in) "Sense Node for Charge Current. Current from VCC passes through the internal current sense resistor and reappears at ISENSE to supply current to the external PNP emitter. The PNP collector provides charge current to the (See Datasheet)", 2 GND (power) "Ground. Provides a reference for the internal voltage regulator and a return for all internal circuits. When in the constant voltage mode, the LTC1734 will precisely regulate the voltage between the BAT and GND pins. The (See Datasheet)", 3 VCC (power) "Positive Input Supply Voltage. Supplies power to the internal control circuitry and external PNP transistor through the internal current sense resistor. This pin should be bypassed to ground with a capacitor in the range of (See Datasheet)", 4 PROG (in) "Charge Current Programming, Charge Current Monitor and manual Shutdown Pin. Provides a virtual reference voltage of 1.5V for an external resistor (RPROG) tied between this pin and ground that programs the battery charge (See Datasheet)", 5 BAT (in) "Battery Voltage Sense Input. A precision internal resistor divider sets the final float voltage on this pin. This divider is disconnected in the manual shutdown or sleep mode. When charging, approximately 34uA flows into the (See Datasheet)", 6 DRIVE (out) "Base Drive Output for the External PNP Pass Transistor. Provides a controlled sink current that drives the base of the PNP. This pin has current limiting protection for the LTC1734"

## LTC1734ES6-4.2#TRMPBF
designator U?
Lithium-Ion Linear Battery Charger, 4.55 to 8 V Vin, 6-pin SOT23 (S6-6), -40 to 85 degC, Pb-Free, Mini Tape and Reel; Manufacturer: Linear Technology; PartNumber: LTC1734ES6-4.2#TRMPBF; Battery Chemistry: Li-Ion, Li-Polymer; Charge Termination: Microcontroller; Float Voltage: 4.2 V; Max Charge Current(A): 0.7; Number of Cells: 1; Vin Max(V): 8; Vin Min(V): 4.55; PackageVersion: Jun-10; PackageReference: S6-6; PackageDescription: 6-Pin Plastic TSOT-23, Body 2.9 x 1.63 mm, Pitch 0.95 mm; Supplier 1: Digi-Key; Supplier Part Number 1: LTC1734ES6-4.2#TRMPBFTR-ND; Supplier 2: Digi-Key; Supplier Part Number 2: LTC1734ES6-4.2#TRMPBFCT-ND; Supplier 3: Digi-Key; Supplier Part Number 3: LTC1734ES6-4.2#TRMPBFDKR-ND; Supplier 4: Newark; Supplier Part Number 4: 56M3545; Packing: Mini Tape and Reel; RoHS: TRUE; Type of Charger: Linear; Mounting Technology: Surface Mount; Code_JEDEC: MO-193; ComponentLink1Description: Manufacturer URL; ComponentLink1URL: http://www.linear.com/; ComponentLink2Description: Datasheet; ComponentLink2URL: http://cds.linear.com/docs/en/datasheet/1734fs.pdf; ComponentLink3Description: Package Specification; ComponentLink3URL: http://cds.linear.com/docs/en/packaging/SOT_6_05-08-1636.pdf
footprint LT-S6-6-TSOT-23_N (SOT23, 6-Leads, Body 2.9x1.75mm, Pitch 0.95mm, IPC Medium Density)
footprint LT-S6-6-TSOT-23_L (SOT23, 6-Leads, Body 2.9x1.75mm, Pitch 0.95mm, IPC High Density)
footprint LT-S6-6-TSOT-23_M (SOT23, 6-Leads, Body 2.9x1.75mm, Pitch 0.95mm, IPC Low Density)
pins: 1 ISENSE (in) "Sense Node for Charge Current. Current from VCC passes through the internal current sense resistor and reappears at ISENSE to supply current to the external PNP emitter. The PNP collector provides charge current to the (See Datasheet)", 2 GND (power) "Ground. Provides a reference for the internal voltage regulator and a return for all internal circuits. When in the constant voltage mode, the LTC1734 will precisely regulate the voltage between the BAT and GND pins. The (See Datasheet)", 3 VCC (power) "Positive Input Supply Voltage. Supplies power to the internal control circuitry and external PNP transistor through the internal current sense resistor. This pin should be bypassed to ground with a capacitor in the range of (See Datasheet)", 4 PROG (in) "Charge Current Programming, Charge Current Monitor and manual Shutdown Pin. Provides a virtual reference voltage of 1.5V for an external resistor (RPROG) tied between this pin and ground that programs the battery charge (See Datasheet)", 5 BAT (in) "Battery Voltage Sense Input. A precision internal resistor divider sets the final float voltage on this pin. This divider is disconnected in the manual shutdown or sleep mode. When charging, approximately 34uA flows into the (See Datasheet)", 6 DRIVE (out) "Base Drive Output for the External PNP Pass Transistor. Provides a controlled sink current that drives the base of the PNP. This pin has current limiting protection for the LTC1734"